# Altium schematic symbol library 10kOhm.SchLib: 2 symbols
Pins are listed as number, name and electrical type; pins without a type are passive.

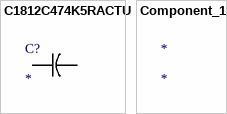
[diagram p0: symbols C1812C474K5RACTU to Component_1]

## C1812C474K5RACTU
designator C?
Imported; Manufacturer_Part_Number: C1812C474K5RACTU; Vendor: Kemet; Built_By: EMA_UL_Team; Type: DEV; C: Copyright (C) 2015 Accelerated Designs. All rights reserved; RefDes: RefDes; Value: Value
footprint PCAP1812_Kemet
pins: 1, 2

## Component_1
designator *